# EAGLE library part 750316708 (library Wurth_Power Magnetics_WE-FLYTI)
WE-FLYTI Flyback Transformers Characteristics Low leakage inductance Multiple package sizes Wide range input voltages Different output voltages available Isolation voltage: up to 3000VAC Lead free and RoHS compliant Operating temp: -40°C to 125°C Applications Industrial and medical power supplies Auxiliary power supplies Home automation Isolated DC/DC power supplies <https://www.we-online.com/components/media/o795300v209%20FAMILY-MID-FLYTI.jpg> Details see: www.we-online.com/en/components/products/WE-FLYTI <www.we-online.com/catalog/WE-FLYTI/?utm_source=eagle_model&utm_medium=description_link&utm_campaign=eisos_eagle> Created by Ella Wu 2024-07-03 2024 (C) Wurth Elektronik
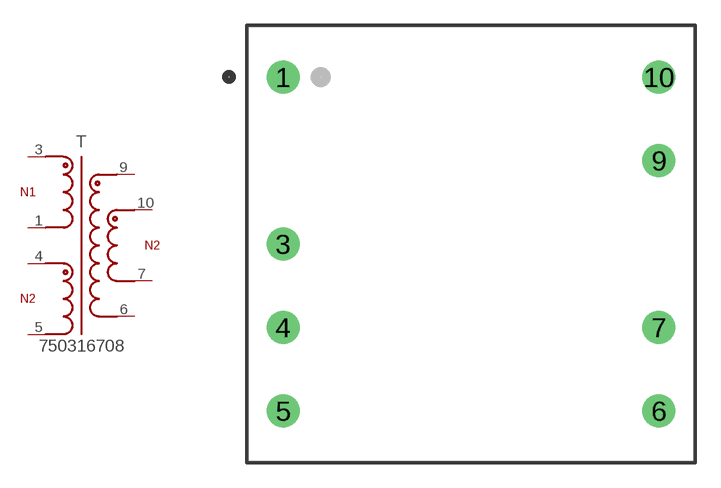
[diagram p20: symbol with the pads of WE-FLYTI_EFD25_2710; footprint WE-FLYTI_EFD25_2710]

Designator prefix T

## 750316708 (DATASHEET-URL: https://www.we-online.com/redexpert/spec/750316708?ae; IOUT1: 3000mA; ISAT: 7A; L: 42uH; LS: 750nH; MOUNT: THT; N: 3:1:1; PART-NUMBER: 750316708; SIZE: EFD25; VALUE: 750316708; VAUX: 12V; VIN: 12 - 60 V (DC); VOUT1: 12V; VT: 1000V(AC))  [WE-FLYTI_EFD25_2710]
1  1  pas
3  3  pas
4  4  pas
5  5  pas
6  6  pas
7  7  pas
9  9  pas
10  10  pas

## Footprint WE-FLYTI_EFD25_2710 (pad centres in mm)
WE-FLYTI Flyback Transformers Size:EFD25,THT,10pins Bobbin: 070-2710
drill 1.32: 1 -11.25,10; 3 -11.25,0; 4 -11.25,-5; 5 -11.25,-10; 6 11.25,-10; 7 11.25,-5; 9 11.25,5; 10 11.25,10